# EAGLE library part 53398_12 (library Connector)
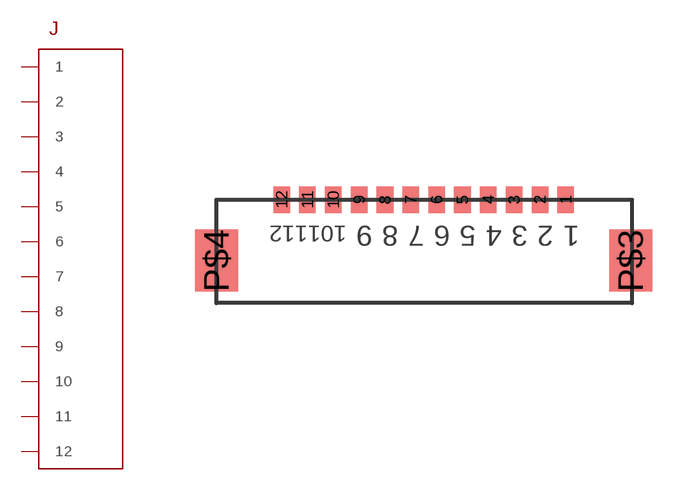
[diagram p4: symbol with the pads of 53398_08; footprint 53398_08]

Designator prefix J

## 53398_12  [53398_08]
1  1
2  2
3  3
4  4
5  5
6  6
7  7
8  8
9  9
10  10
11  11
12  12

## Footprint 53398_08 (pad centres in mm)
smd 0.8 x 1.3: 1 5.6,1.25; 2 4.35,1.25; 3 3.1,1.25; 4 1.85,1.25; 5 0.6,1.25; 6 -0.65,1.25; 7 -1.9,1.25; 8 -3.15,1.25; 9 -4.4,1.25; 10 -5.65,1.25; 11 -6.9,1.25; 12 -8.15,1.25
smd 2.1 x 3: P$3 8.75,-1.7; P$4 -11.3,-1.7